# EAGLE library part SI1416EDH (library Si1416EDH)
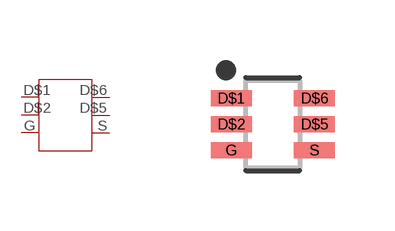
[diagram p0: symbol with the pads of SOT65P210X110-6N; footprint SOT65P210X110-6N]

Designator prefix -

## SI1416EDH  [SOT65P210X110-6N]
D$1  D$1
D$2  D$2
D$5  D$5
D$6  D$6
G  G
S  S

## Footprint SOT65P210X110-6N (pad centres in mm)
6-SOT23, 0.65 mm pitch, 2.10 mm span, 2.00 X 1.25 X 1.10 mm body 6-pin SOT23 package with 0.65 mm pitch, 2.10 mm span with body size 2.00 X 1.25 X 1.10 mm
smd 1.026 x 0.397: D$1 -1.042,0.65; D$2 -1.042,0; D$5 1.042,0; D$6 1.042,0.65; G -1.042,-0.65; S 1.042,-0.65